# EAGLE library part AK4493SEQ (library AK4493SEQ)
Audio D/A Converter ICs Premium DAC Gen3+ 32bit 768kHz 125dB 2ch DSD SCDF Source: Datasheet <https://info2.akm.com/NTY4LUFQSi0yNTUAAAGIKypGfocQFOnegEJYsrVIex-YBlHLm3GLtyIKKfwqo7Ul6QoYTQp5_r0JA_JYYGJWnu6VszM=>
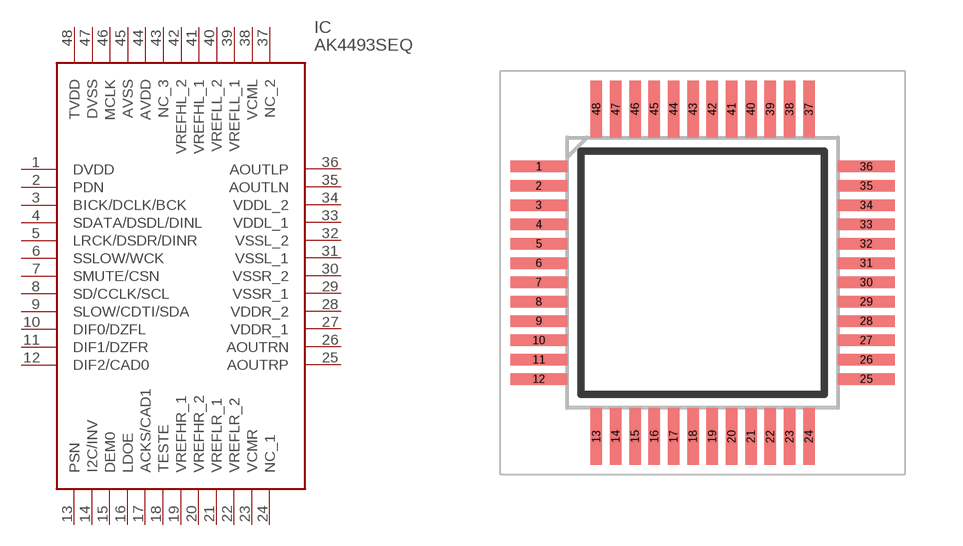
[diagram p0: symbol with the pads of QFP50P900X900X160-48N; footprint QFP50P900X900X160-48N]

Designator prefix IC

## AK4493SEQ (Arrow_Part_Number: AK4493SEQ; Arrow_Price-Stock: https://www.arrow.com/en/products/ak4493seq/asahi-kasei-microdevices-corporation?region=nac; Description: Audio D/A Converter ICs Premium DAC Gen3+ 32bit 768kHz 125dB 2ch DSD SCDF; Height: 1.6mm; Manufacturer_Name: Asahi Kasei Microdevices; Manufacturer_Part_Number: AK4493SEQ; Mouser_Part_Number: 412-AK4493SEQ; Mouser_Price-Stock: https://www.mouser.co.uk/ProductDetail/Asahi-Kasei-Microdevices/AK4493SEQ?qs=vvQtp7zwQdNLz7hR9sAnvg%3D%3D)  [QFP50P900X900X160-48N]
1  DVDD
2  PDN
3  BICK/DCLK/BCK
4  SDATA/DSDL/DINL
5  LRCK/DSDR/DINR
6  SSLOW/WCK
7  SMUTE/CSN
8  SD/CCLK/SCL
9  SLOW/CDTI/SDA
10  DIF0/DZFL
11  DIF1/DZFR
12  DIF2/CAD0
13  PSN
14  I2C/INV
15  DEM0
16  LDOE
17  ACKS/CAD1
18  TESTE
19  VREFHR_1
20  VREFHR_2
21  VREFLR_1
22  VREFLR_2
23  VCMR
24  NC_1
25  AOUTRP
26  AOUTRN
27  VDDR_1
28  VDDR_2
29  VSSR_1
30  VSSR_2
31  VSSL_1
32  VSSL_2
33  VDDL_1
34  VDDL_2
35  AOUTLN
36  AOUTLP
37  NC_2
38  VCML
39  VREFLL_1
40  VREFLL_2
41  VREFHL_1
42  VREFHL_2
43  NC_3
44  AVDD
45  AVSS
46  MCLK
47  DVSS
48  TVDD

## Footprint QFP50P900X900X160-48N (pad centres in mm)
AK4493SEQ
smd 1.475 x 0.3: 1 -4.238,2.75; 2 -4.238,2.25; 3 -4.238,1.75; 4 -4.238,1.25; 5 -4.238,0.75; 6 -4.238,0.25; 7 -4.238,-0.25; 8 -4.238,-0.75; 9 -4.238,-1.25; 10 -4.238,-1.75; 11 -4.238,-2.25; 12 -4.238,-2.75; 25 4.238,-2.75; 26 4.238,-2.25; 27 4.238,-1.75; 28 4.238,-1.25; 29 4.238,-0.75; 30 4.238,-0.25; 31 4.238,0.25; 32 4.238,0.75; 33 4.238,1.25; 34 4.238,1.75; 35 4.238,2.25; 36 4.238,2.75
smd 0.3 x 1.475: 13 -2.75,-4.238; 14 -2.25,-4.238; 15 -1.75,-4.238; 16 -1.25,-4.238; 17 -0.75,-4.238; 18 -0.25,-4.238; 19 0.25,-4.238; 20 0.75,-4.238; 21 1.25,-4.238; 22 1.75,-4.238; 23 2.25,-4.238; 24 2.75,-4.238; 37 2.75,4.238; 38 2.25,4.238; 39 1.75,4.238; 40 1.25,4.238; 41 0.75,4.238; 42 0.25,4.238; 43 -0.25,4.238; 44 -0.75,4.238; 45 -1.25,4.238; 46 -1.75,4.238; 47 -2.25,4.238; 48 -2.75,4.238